# Altium footprint library ds1040_02rn.PcbLib: 1 footprints
Each footprint in its own frame and in the unit in brackets; x right, y up, seen from the top. Pads: shape width x height; smd on the part's side, far side on the other; paste and mask are expansions set on the pad; w line width, h text height; cw(c..) or ccw(c..) is an arc to the next point about the centre after c.
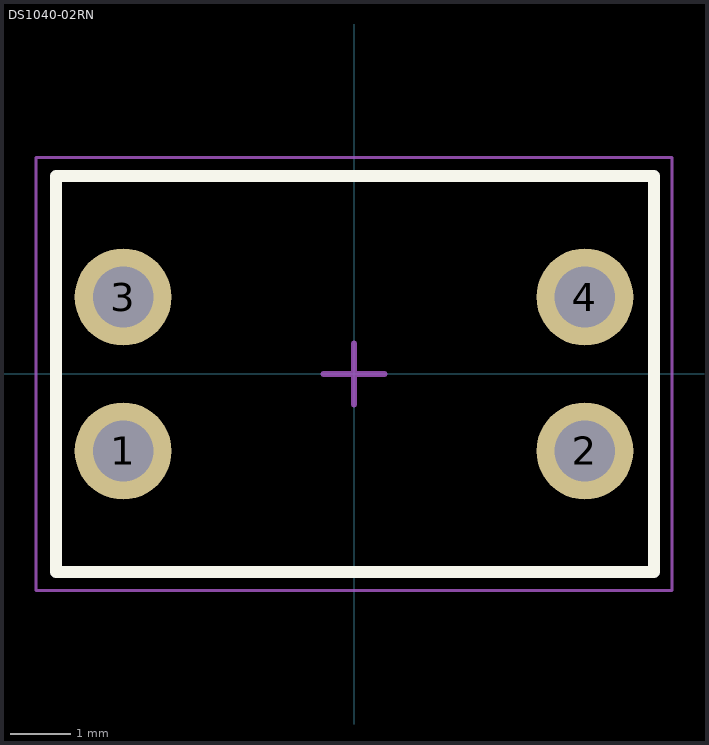
[diagram p0: the footprint, top view; thin cyan lines are the x and y axes]

## DS1040-02RN [mm]
height 6
pads (4):
  round 1.6 hole 1: 1(-3.81,-1.27) 2(3.81,-1.27) 3(-3.81,1.27) 4(3.81,1.27)
Top Overlay:
  lines w0.2: -4.92,-3.27 4.95,-3.27 4.95,3.27 -4.92,3.27 -4.92,-3.27
Top Comment:
  text ".Comment" at 1,3.7 h1.2
Top Designator:
  text ".Designator" at -0.4,3.7 h1.2
Top Component Outline:
  lines w0.1: -4.925,-3.27 -4.925,3.27 4.95,3.27 4.95,-3.27 -4.925,-3.27
Top Courtyard (Mech15):
  lines w0.05: -5.25,-3.57 -5.25,3.27 -5.25,3.57 -4.95,3.57 5.25,3.57 5.25,-3.27 5.25,-3.57 4.95,-3.57 -5.25,-3.57
  lines w0.1: -0.5,0 0,0 ; 0,-0.5 0,0 ; 0,0.5 0,0 ; 0.5,0 0,0
3D body "DS1040-02.step": height 6.8, standoff -3.85, extent -4.95,-3.27 4.95,3.27